# EAGLE library part MCP3008 (library BME_Components)
2.7V 4-Channel/8-Channel 10-Bit A/D Converters with SPI Serial Interface, 16-Pin PDIP, Industrial Temperature
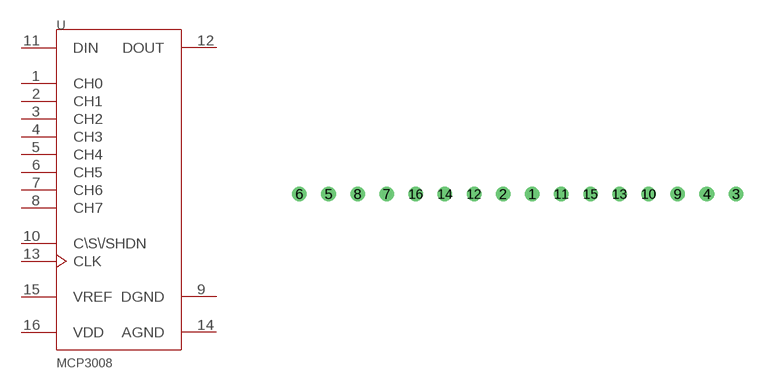
[diagram p7: symbol with the pads of MCP3008_PDIP-16; footprint MCP3008_PDIP-16]

Designator prefix U

## MCP3008MCP3008_MCP3008_PDIP-16 (CODE_JEDEC: MS-001-BB; COMPONENTLINK1DESCRIPTION: Manufacturer URL; COMPONENTLINK1URL: http://www.microchip.com/; COMPONENTLINK2DESCRIPTION: Datasheet; COMPONENTLINK2URL: http://ww1.microchip.com/downloads/en/DeviceDoc/21295d.pdf; COMPONENTLINK3DESCRIPTION: Package Specification; COMPONENTLINK3URL: http://www.microchip.com/stellent/groups/techpub_sg/documents/packagingspec/en012702.pdf; DATASHEETVERSION: revD, Dec-2008; PACKAGEDESCRIPTION: 16-Lead Plastic Dual In-Line (P) - 300 mil Body [PDIP]; PACKAGEREFERENCE: PDIP300-P16; PACKAGEVERSION: revBB, Aug-2009; REVISIONNOTE: URLs added.)  [MCP3008_PDIP-16]
1  CH0  in
2  CH1  in
3  CH2  in
4  CH3  in
5  CH4  in
6  CH5  in
7  CH6  in
8  CH7  in
9  DGND  pwr
10  C\S\/SHDN  in
11  DIN  in
12  DOUT  hiz
13  CLK  in
14  AGND  pwr
15  VREF  in
16  VDD  pwr

## Footprint MCP3008_PDIP-16 (pad centres in mm)
drill 0.127 pad 0.254 round: 1 10.16,0; 2 8.89,0; 3 19.05,0; 4 17.78,0; 5 1.27,0; 6 0,0; 7 3.81,0; 8 2.54,0; 9 16.51,0; 10 15.24,0; 11 11.43,0; 12 7.62,0; 13 13.97,0; 14 6.35,0; 15 12.7,0; 16 5.08,0